# Altium footprint library BMS.Pcb.lib.PcbLib: 38 footprints (part 3 of 3)
Each footprint in its own frame and in the unit in brackets; x right, y up, seen from the top. Pads: shape width x height; smd on the part's side, far side on the other; paste and mask are expansions set on the pad; w line width, h text height; cw(c..) or ccw(c..) is an arc to the next point about the centre after c.
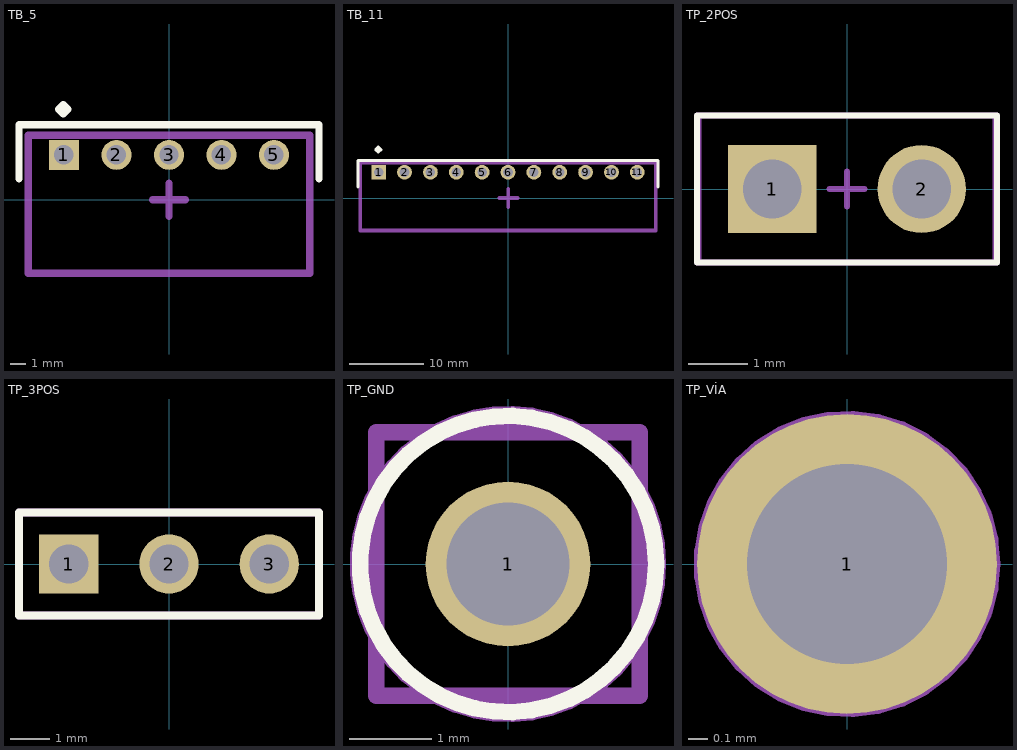
[diagram p2: the footprints below, top view; thin cyan lines are the x and y axes]

## TB_5 [mm]
pads (5):
  rect 2x2 hole 1.3 mask+0.005: 1(-7,3)
  round 2 hole 1.3 mask+0.005: 2(-3.5,3) 3(0,3) 4(3.5,3) 5(7,3)
Top Overlay:
  lines w0.5: -10,1.4 -10,5 10,5 10,1.4 ; -7.35,6.05 -7.05,5.75 -6.75,6.05 -7.05,6.35 -7.35,6.05
Top Designator:
  lines w0.5: -9.4,-4.9 9.4,-4.9 9.4,4.3 -9.4,4.3 -9.4,-4.9
  text ".Designator" at -5.146,5.687 h1
Top Component Center:
  lines w0.5: -1.1,0 1.1,0 ; 0,-1.1 0,1.1 ; -9.4,-4.9 9.4,-4.9 9.4,4.3 -9.4,4.3 -9.4,-4.9
Top 3D Body:
  lines w0.5: -9.4,-4.9 -9.4,4.3 9.4,4.3 9.4,-4.9 -9.4,-4.9
3D body "TB_5.stp": height 7.86, standoff -2.56, extent -9.449,-4.872 9.449,4.272

## TB_11 [mm]
pads (11):
  rect 2x2 hole 1.3 mask+0.005: 1(-17.5,3.5)
  round 2 hole 1.3 mask+0.005: 2(-14,3.5) 3(-10.5,3.5) 4(-7,3.5) 5(-3.5,3.5) 6(0,3.5) 7(3.5,3.5) 8(7,3.5) 9(10.5,3.5) 10(14,3.5) 11(17.5,3.5)
Top Overlay:
  lines w0.4: -20.3,1.5 -20.3,5.1 20.3,5.1 20.3,1.5
  lines w0.5: -17.85,6.55 -17.55,6.85 -17.25,6.55 -17.55,6.25 -17.85,6.55
Top Designator:
  lines w0.5: -20,-4.4 -20,4.8 20,4.8 20,-4.4 -20,-4.4
  text ".Designator" at -3.946,6.887 h1
Top Component Center:
  lines w0.5: -1.2,0 1.3,0 ; 0.05,-1.25 0.05,1.25 ; -20,-4.4 -20,4.8 20,4.8 20,-4.4 -20,-4.4
Top 3D Body:
  lines w0.5: -20,-4.4 20,-4.4 20,4.8 -20,4.8 -20,-4.4
3D body "TB_11.stp": height 7.86, standoff -2.56, extent -19.952,-4.372 19.952,4.772

## TP_2POS [mm]
pads (2):
  rect 1.5x1.5 hole 1 mask+0.005: 1(-1.27,0)
  round 1.5 hole 1 mask+0.005: 2(1.27,0)
Top Overlay:
  lines w0.1: -2.55,-1.25 -2.55,1.25 2.55,1.25 2.55,-1.25 -2.55,-1.25
Top Designator:
  lines w0.1: -2.525,-1.25 2.525,-1.25 2.525,1.25 -2.525,1.25 -2.525,-1.25
  text ".Designator" at -2.425,-0.183 h0.5
Top Component Center:
  lines w0.1: -0.3,0 0.3,0 ; 0,-0.3 0,0.3 ; -2.55,-1.25 2.55,-1.25 2.55,1.25 -2.55,1.25 -2.55,-1.25
Top 3D Body:
  lines w0.1: -2.55,-1.25 2.55,-1.25 2.55,1.25 -2.55,1.25 -2.55,-1.25
3D body "TP_2POS.stp": height 5.51, standoff -3, extent -2.54,-1.245 2.54,1.245

## TP_3POS [mm]
pads (3):
  rect 1.5x1.5 hole 1 mask+0.005: 1(-2.54,0)
  round 1.5 hole 1 mask+0.005: 2(0,0) 3(2.54,0)
Top Overlay:
  lines w0.2: -3.8,-1.3 -3.8,1.3 3.8,1.3 3.8,-1.3 -3.8,-1.3
Top Designator:
  lines w0.2: -3.8,-1.3 -3.8,1.3 3.8,1.3 3.8,-1.3 -3.8,-1.3
  text ".Designator" at -4.846,2.187 h1
Top Component Center:
  lines w0.2: -0.5,0 0.5,0 ; 0,-0.5 0,0.5 ; -3.8,-1.3 -3.8,1.3 3.8,1.3 3.8,-1.3 -3.8,-1.3
Top 3D Body:
  lines w0.2: -3.8,-1.3 3.8,-1.3 3.8,1.3 -3.8,1.3 -3.8,-1.3
3D body "TP_3POS.stp": height 8.38, standoff -2.54, extent -3.81,-1.245 3.81,1.245

## TP_GND [mm]
pads (1):
  round 2 hole 1.5 mask+0.005: 1(0,0)
Top Overlay:
  circle w0.2: c0,0 r1.8
Top Designator:
  circle w0.2: c0,0 r1.823
  text ".Designator" at -3.346,2.287 h1
Top Component Center:
  circle w0.2: c0,0 r1.809
  lines w0.2: -0.4,0 0.4,0 ; 0,-0.4 0,0.4
Top 3D Body:
  lines w0.2: -1.6,-1.6 1.6,-1.6 1.6,1.6 -1.6,1.6 -1.6,-1.6
3D body "TP_1POS.step": height 8.12, standoff -3.17, extent -1.576,-1.587 1.576,1.587

## TP_VİA [mil]
pads (1):
  round 60 hole 40 mask+0.2: 1(0,0)
Top Designator:
  circle w3.94: c0,0 r28.54
  text ".Designator" at -24.61,-5.58 h15.75
Top Component Center:
  circle w3.94: c0,0 r28.7
  lines w3.94: -7.87,0 7.87,0 ; 0.11,-7.9 0.11,7.85